# Altium footprint library ledlib.PcbLib: 3 footprints
Each footprint in its own frame and in the unit in brackets; x right, y up, seen from the top. Pads: shape width x height; smd on the part's side, far side on the other; paste and mask are expansions set on the pad; w line width, h text height; cw(c..) or ccw(c..) is an arc to the next point about the centre after c.
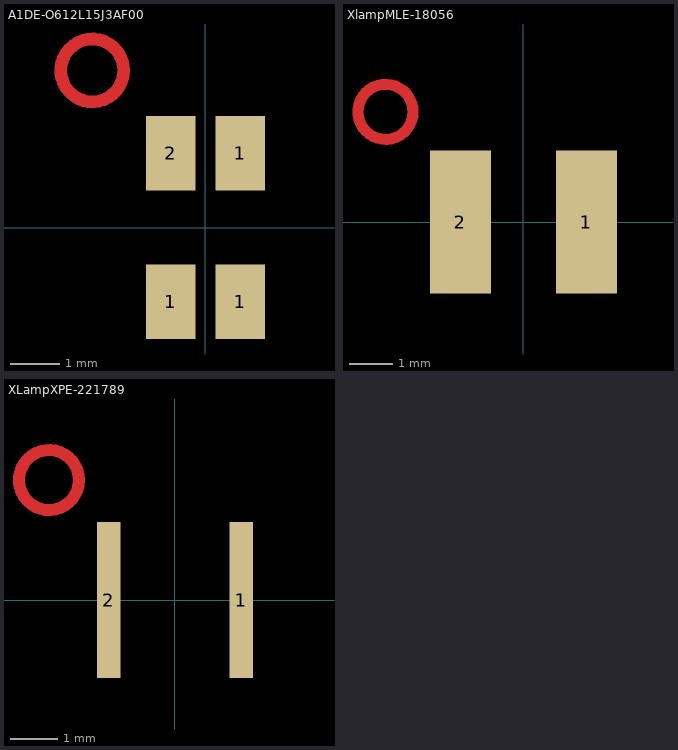
[diagram p0: the footprints below, top view; thin cyan lines are the x and y axes]

## A1DE-O612L15J3AF00 [mm]
pads (4):
  rect 1x1.5 smd: 1(-0.7,-1.5) 1(0.7,-1.5) 1(0.7,1.5) 2(-0.7,1.5)
Top Layer:
  circle w0.254: c-2.286,3.175 r0.635

## XlampMLE-18056 [mm]
pads (2):
  rect 1.4x3.3 smd: 1(1.45,0) 2(-1.45,0)
Top Layer:
  circle w0.254: c-3.175,2.54 r0.635

## XLampXPE-221789 [mm]
pads (2):
  rect 0.5x3.3 smd: 1(1.4,0) 2(-1.4,0)
Top Layer:
  circle w0.254: c-2.667,2.54 r0.635